# Altium schematic symbol library LT8365HMSE#PBF.SchLib: 1 symbol
Pins are listed as number, name and electrical type; pins without a type are passive.

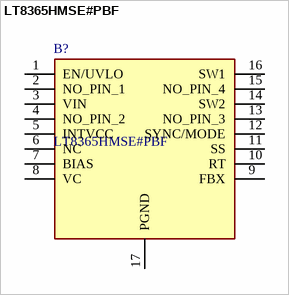
[diagram p0: symbol LT8365HMSE#PBF]

## LT8365HMSE#PBF
designator B?
Switching Voltage Regulators 60VIN Boost/SEPIC/Inv Conv 1.5A/150 PR S; Manufacturer_Name: Analog Devices; Geometry.Height: 1.1mm; Mouser Part Number: 584-LT8365HMSE#PBF; Mouser Price/Stock: https://www.mouser.co.uk/ProductDetail/Analog-Devices/LT8365HMSEPBF?qs=GBLSl2Akirvi5%252BAyHwg2vw%3D%3D; Manufacturer_Part_Number: LT8365HMSE#PBF; Datasheet Link: https://www.analog.com/media/en/technical-documentation/data-sheets/LT8365.pdf
footprint SOP50P490X110-17N
pins: 1 EN/UVLO, 2 NO_PIN_1, 3 VIN, 4 NO_PIN_2, 5 INTVCC, 6 NC, 7 BIAS, 8 VC, 9 FBX, 10 RT, 11 SS, 12 SYNC/MODE, 13 NO_PIN_3, 14 SW2, 15 NO_PIN_4, 16 SW1, 17 PGND